# Altium schematic symbol library 691 221 120 0xx.SchLib: 6 symbols
Pins are listed as number, name and electrical type; pins without a type are passive.

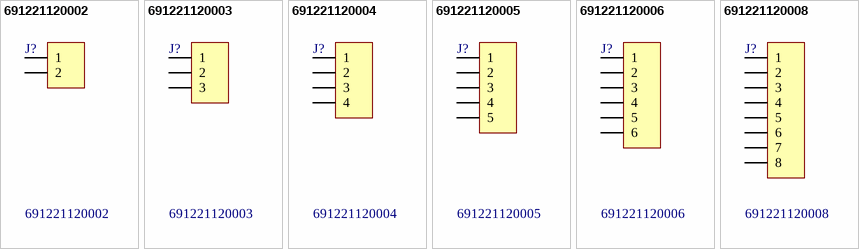
[diagram p0: symbols 691221120002 to 691221120008]

## 691221120002
designator J?
WR-TBL Terminal Blocks Serie 2211 - 3.50 mm; Manufacturer: Würth Elektronik eiSos GmbH; ComponentLink1 Description: Manufacturer; ComponentLink2 Description: Datasheet; NoPins: 2; Created Date: 14 Novenber 2013; partNo: 691221120002; ComponentLink1URL: http://www.we-online.com; ComponentLink2URL: http://katalog.we-online.de/em/datasheet/6912211200xx.pdf; Created by: Karrer Zheng
footprint 691221120002 (3,50mm - modular - green - 55° wire entry - Cage clamp - 02p)
pins: 1, 2

## 691221120003
designator J?
WR-TBL Terminal Blocks Serie 2211 - 3.50 mm; Manufacturer: Würth Elektronik eiSos GmbH; ComponentLink1 Description: Manufacturer; ComponentLink2 Description: Datasheet; NoPins: 3; Created Date: 14 Novenber 2013; partNo: 691221120003; ComponentLink1URL: http://www.we-online.com; ComponentLink2URL: http://katalog.we-online.de/em/datasheet/6912211200xx.pdf; Created by: Karrer Zheng
footprint 691221120003 (3,50mm - modular - green - 55° wire entry - Cage clamp - 03p)
pins: 1, 2, 3

## 691221120004
designator J?
WR-TBL Terminal Blocks Serie 2211 - 3.50 mm; Manufacturer: Würth Elektronik eiSos GmbH; ComponentLink1 Description: Manufacturer; ComponentLink2 Description: Datasheet; NoPins: 4; Created Date: 14 Novenber 2013; partNo: 691221120004; ComponentLink1URL: http://www.we-online.com; ComponentLink2URL: http://katalog.we-online.de/em/datasheet/6912211200xx.pdf; Created by: Karrer Zheng
footprint 691221120004 (3,50mm - modular - green - 55° wire entry - Cage clamp - 04p)
pins: 1, 2, 3, 4

## 691221120005
designator J?
WR-TBL Terminal Blocks Serie 2211 - 3.50 mm; Manufacturer: Würth Elektronik eiSos GmbH; ComponentLink1 Description: Manufacturer; ComponentLink2 Description: Datasheet; NoPins: 5; Created Date: 14 Novenber 2013; partNo: 691221120005; ComponentLink1URL: http://www.we-online.com; ComponentLink2URL: http://katalog.we-online.de/em/datasheet/6912211200xx.pdf; Created by: Karrer Zheng
footprint 691221120005 (3,50mm - modular - green - 55° wire entry - Cage clamp - 05p)
pins: 1, 2, 3, 4, 5

## 691221120006
designator J?
WR-TBL Terminal Blocks Serie 2211 - 3.50 mm; Manufacturer: Würth Elektronik eiSos GmbH; ComponentLink1 Description: Manufacturer; ComponentLink2 Description: Datasheet; NoPins: 6; Created Date: 14 Novenber 2013; partNo: 691221120006; ComponentLink1URL: http://www.we-online.com; ComponentLink2URL: http://katalog.we-online.de/em/datasheet/6912211200xx.pdf; Created by: Karrer Zheng
footprint 691221120006 (3,50mm - modular - green - 55° wire entry - Cage clamp - 06p)
pins: 1, 2, 3, 4, 5, 6

## 691221120008
designator J?
WR-TBL Terminal Blocks Serie 2211 - 3.50 mm; Manufacturer: Würth Elektronik eiSos GmbH; ComponentLink1 Description: Manufacturer; ComponentLink2 Description: Datasheet; NoPins: 8; Created Date: 14 Novenber 2013; partNo: 691221120008; ComponentLink1URL: http://www.we-online.com; ComponentLink2URL: http://katalog.we-online.de/em/datasheet/6912211200xx.pdf; Created by: Karrer Zheng
footprint 691221120008 (3,50mm - modular - green - 55° wire entry - Cage clamp - 08p)
pins: 1, 2, 3, 4, 5, 6, 7, 8